# Altium footprint library Sheye-Capacitor.PcbLib: 52 footprints (part 4 of 4)
Each footprint in its own frame and in the unit in brackets; x right, y up, seen from the top. Pads: shape width x height; smd on the part's side, far side on the other; paste and mask are expansions set on the pad; w line width, h text height; cw(c..) or ccw(c..) is an arc to the next point about the centre after c.
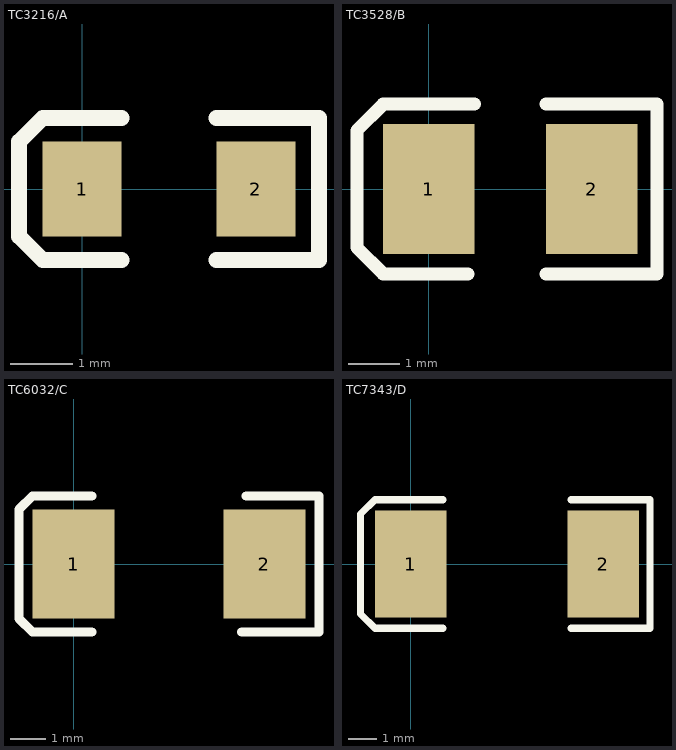
[diagram p3: the footprints below, top view; thin cyan lines are the x and y axes]

## TC3216/A [mil]
pads (2):
  rect 50x60 smd: 1(0,0) 2(110,0)
Top Overlay:
  lines w10: 25,-45 -25,-45 -40,-30 -40,30 -25,45 25,45 ; 85,-45 150,-45 150,45 85,45
3D body: height 62.99, standoff 0, extent -7.99,-32.99 117.99,30

## TC3528/B [mil]
pads (2):
  rect 70x100 smd: 1(0,0) 2(125,0)
Top Overlay:
  lines w10: 30,-65 -35,-65 -55,-45 -55,45 -35,65 35,65 ; 90,-65 175,-65 175,65 90,65
3D body: height 74.8, standoff 0, extent -3.9,-55 133.9,55.24

## TC6032/C [mil]
pads (2):
  rect 90x120 smd: 1(0,0) 2(210,0)
Top Overlay:
  lines w10: 20,-75 -45,-75 -60,-60 -60,60 -45,75 20,75 ; 185,-75 270,-75 270,75 190,75
3D body: height 102.36, standoff 0, extent -15,-60 221.22,65.98

## TC7343/D [mil]
pads (2):
  rect 100x150 smd: 1(0,0) 2(270,0)
Top Overlay:
  lines w10: 45,-90 -50,-90 -70,-70 -70,70 -50,90 45,90 ; 225,-90 335,-90 335,90 225,90
3D body: height 114.17, standoff 0, extent -8.7,-84.29 278.7,85